# Altium integrated library MICRO_C_USB.IntLib: 1 symbol
Pins are listed as number, name and electrical type; pins without a type are passive.

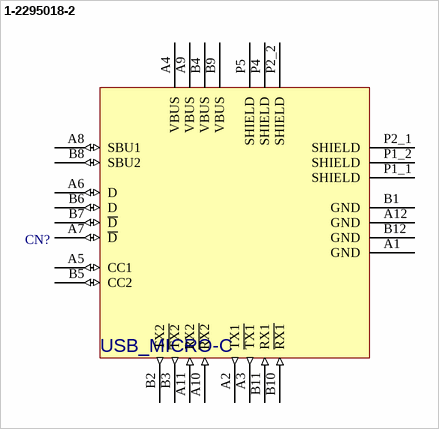
[diagram p0: symbol 1-2295018-2]

## 1-2295018-2
designator CN?, comment USB_MICRO-C
Connector USB Type C RCP SMD 24 Terminal workable with USB 3.1,3.0 and 2.0 standards.; PCB Package type: smd USB type C connector; MP: 1-2295018-2; MF: TE Connectivity; Designed by: Faheem Minhas; Company: PhasePhotonics; 3D Model: NA; TE_purchase_URL: https://www.te.com/usa-en/product-1-2295018-2.html?te_bu=Cor&te_type=disp&te_campaign=seda_glo_cor-seda-global-disp-prtnr-fy19-seda-model-bom-cta_sma-317_1&elqCampaignId=32493; PCB footprint URL:: https://www.snapeda.com/parts/1-2295018-2/TE%20Connectivity%20AMP%20Connectors/view-part/?ref=snap; Price: 4.29 pound; Buying URL:: https://uk.farnell.com/te-connectivity/1-2295018-2/usb-connector-3-1-type-c-rcpt/dp/2568946?st=USB%20TYPE%20C; Datasheet URL:: http://www.farnell.com/datasheets/2292385.pdf?_ga=2.46605921.752270131.1548443175-886242363.1545409715&_gac=1.159200584.1547824021.Cj0KCQiAj4biBRC-ARIsAA4WaFgEVxY1DDQMjPmwclte-08yP6TbUPRUf-iJ2mTW08_wstvQJToLRRUaArGKEALw_wcB; Date created: 30/01/2019; Last modified: 30/01/2019
footprint TE_1-2295018-2_1-2295018-2(Primary)
pins: A1 GND (power) "Ground for 1st TX channel.", A2 TX1 (out) "USB 3.0 High speed differential TX1(+ve).", A3 ~{TX1} (out) "USB 3.0 High speed differential TX1(-ve).", A4 VBUS (power) "VBUS for TX channel 1.", A5 CC1 (io) "USB Type-C power configuration channel signal 1.", A6 D (io) "USB type 2.0 differential data pin (positive).", A7 ~{D} (io) "USB type 2.0 differential data pin (negative).", A8 SBU1 (io) "Side band use pin (used for extra function such as video dat).", A9 VBUS (power) "VBUS for RX channel 2.", A10 ~{RX2} (in) "USB 3.0 High speed differential RX12(-ve).", A11 RX2 (in) "USB 3.0 High speed differential RX2(+ve).", A12 GND (power) "Ground for 2nd TX channel.", B1 GND (power) "Ground for 2nd RX channel.", B2 TX2 (out) "USB 3.0 High speed differential TX2(+ve).", B3 ~{TX2} (out) "USB 3.0 High speed differential TX2(-ve).", B4 VBUS (power) "VBUS for TX channel 2.", B5 CC2 (io) "USB Type-C power configuration channel signal 2.", B6 D (io) "USB type 2.0 differential data pin (positive).", B7 ~{D} (io) "USB type 2.0 differential data pin (negative).", B8 SBU2 (io) "Side band use pin (used for extra function such as video dat).", B9 VBUS (power) "VBUS for RX channel 1.", B10 ~{RX1} (in) "USB 3.0 High speed differential RX1(-ve).", B11 RX1 (in) "USB 3.0 High speed differential RX1(+ve).", B12 GND (power) "Ground for 1st RX channel.", P1_1 SHIELD (power) "Should be grounded.", P1_2 SHIELD (power) "Should be grounded.", P2_1 SHIELD (power) "Should be grounded.", P2_2 SHIELD (power) "Should be grounded.", P4 SHIELD (power) "Should be grounded.", P5 SHIELD (power) "Should be grounded."